# EAGLE library part TRHUI303-2X12 (library transformatory)
Plochý transformátor 2x12V
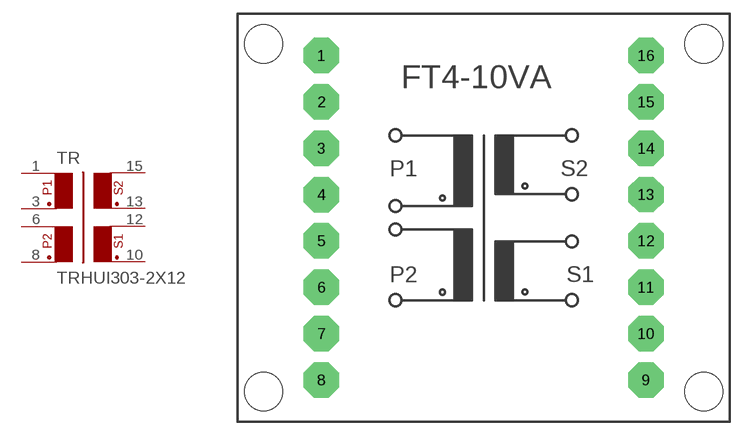
[diagram p59: symbol with the pads of TRHUI301; footprint TRHUI301]

Designator prefix TR

## TRHUI303-2X12  [TRHUI301]
1  1  pas
3  2  pas
6  3  pas
8  4  pas
10  5  pas
12  6  pas
13  7  pas
15  8  pas

## Footprint TRHUI301 (pad centres in mm)
drill 1.194 pad 3.81 octagon: 1 -17.501,17.501; 2 -17.501,12.501; 3 -17.501,7.493; 4 -17.501,2.501; 5 -17.501,-2.489; 6 -17.501,-7.497; 7 -17.501,-12.497; 8 -17.501,-17.497; 9 17.501,-17.497; 10 17.501,-12.497; 11 17.501,-7.497; 12 17.501,-2.489; 13 17.501,2.511; 14 17.501,7.493; 15 17.501,12.493; 16 17.501,17.501
hole 4.115 at 23.749,18.745
hole 4.115 at 23.749,-18.745
hole 4.115 at -23.749,-18.745
hole 4.115 at -23.749,18.745